# EAGLE library part HEADER-1X6 (library uBraids_SE)
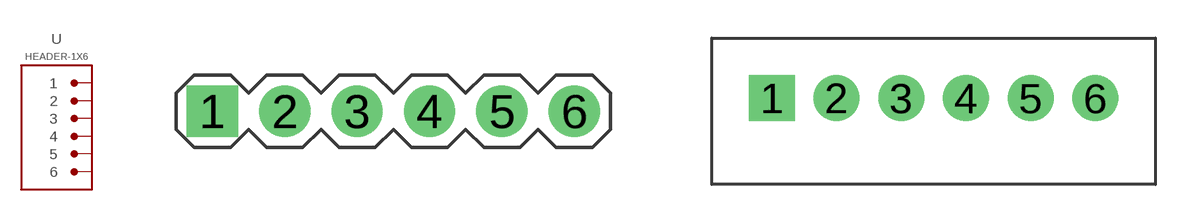
[diagram p2: symbol with the pads of PTH-0.1-1X6; footprints PTH-0.1-1X6, JST-XH-6]

Designator prefix -

## HEADER-1X6-PTH  [PTH-0.1-1X6]
1  1
2  2
3  3
4  4
5  5
6  6

## HEADER-1X6-PTH-SHROUDED  [JST-XH-6]
Pads as for PTH-0.1-1X6

## Footprint PTH-0.1-1X6 (pad centres in mm)
drill 1 pad 1.8 square: 1 -6.35,0
drill 1 pad 1.8: 2 -3.81,0; 3 -1.27,0; 4 1.27,0; 5 3.81,0; 6 6.35,0

## Footprint JST-XH-6 (pad centres in mm)
drill 1 pad 1.8 square: 1 -6.35,0
drill 1 pad 1.8: 2 -3.81,0; 3 -1.27,0; 4 1.27,0; 5 3.81,0; 6 6.35,0